# Altium footprint library Btn_Horiz.PcbLib: 1 footprints
Each footprint in its own frame and in the unit in brackets; x right, y up, seen from the top. Pads: shape width x height; smd on the part's side, far side on the other; paste and mask are expansions set on the pad; w line width, h text height; cw(c..) or ccw(c..) is an arc to the next point about the centre after c.
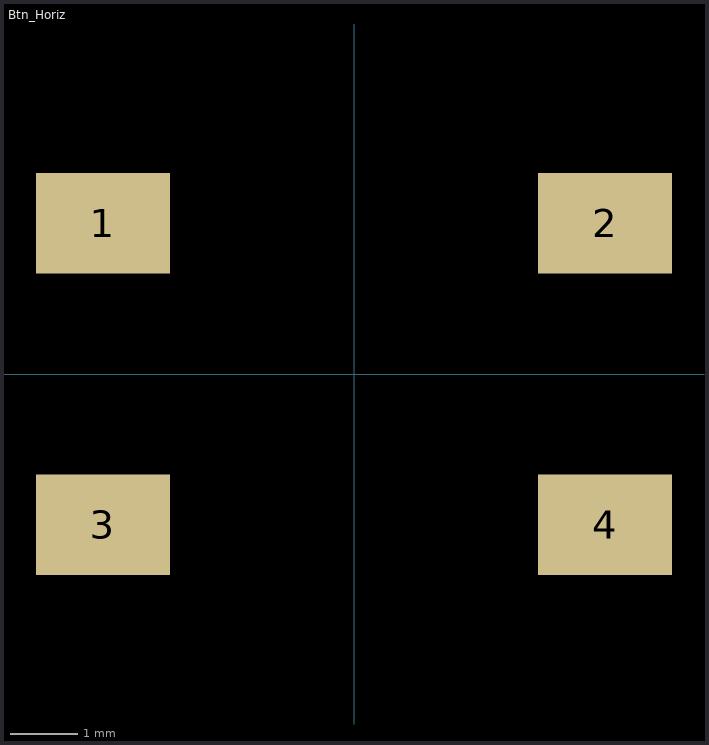
[diagram p0: the footprint, top view; thin cyan lines are the x and y axes]

## Btn_Horiz [mm] "Horizontal 6x6mm SMD Button"
pads (4):
  rect 2x1.5 smd: 1(-3.75,2.25) 2(3.75,2.25) 3(-3.75,-2.25) 4(3.75,-2.25)
3D body: height 0.4, standoff 0.1, extent -4,-2.5 4,2.5
3D body: height 3.6, standoff 3.5, extent -3,-3 3,3
3D body: height 4.5, standoff 3.5, extent -1.75,-1.749 1.75,1.75
3D body: height 3.8, standoff 3.5, extent 1.95,-2.55 2.55,-1.95
3D body: height 3.8, standoff 3.5, extent 1.95,1.95 2.55,2.55
3D body: height 3.8, standoff 3.5, extent -2.55,1.95 -1.95,2.55
3D body: height 3.8, standoff 3.5, extent -2.55,-2.55 -1.95,-1.95
3D body: height 3.5, standoff 0, extent -3,-3 3,3